# EAGLE library part SN75C3221 (library NASA_LIB)
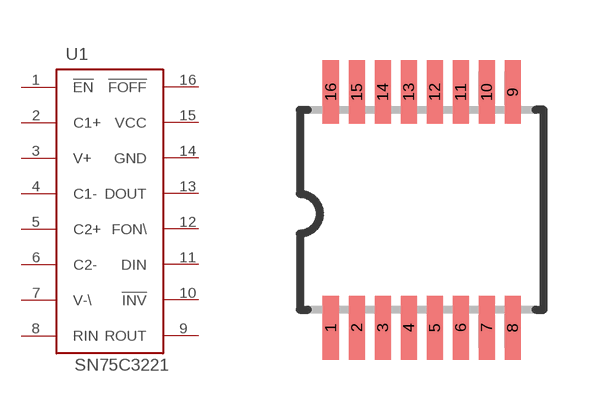
[diagram p10: symbol with the pads of TSSOP-16; footprint TSSOP-16]

Designator prefix U1

## SN75C3221  [TSSOP-16]
1  !EN
2  C1+
3  V+
4  C1-
5  C2+
6  C2-
7  V-\
8  RIN
9  ROUT
10  !INV
11  DIN
12  FON\
13  DOUT
14  GND
15  VCC
16  !FOFF

## Footprint TSSOP-16 (pad centres in mm)
smd 0.4 x 1.6: 1 -2.225,-2.85; 2 -1.575,-2.85; 3 -0.925,-2.85; 4 -0.275,-2.85; 5 0.375,-2.85; 6 1.025,-2.85; 7 1.675,-2.85; 8 2.325,-2.85; 9 2.325,3.05; 10 1.675,3.05; 11 1.025,3.05; 12 0.375,3.05; 13 -0.275,3.05; 14 -0.925,3.05; 15 -1.575,3.05; 16 -2.225,3.05